# EAGLE library part PICAXE-18M2 (library PICAXEv2)
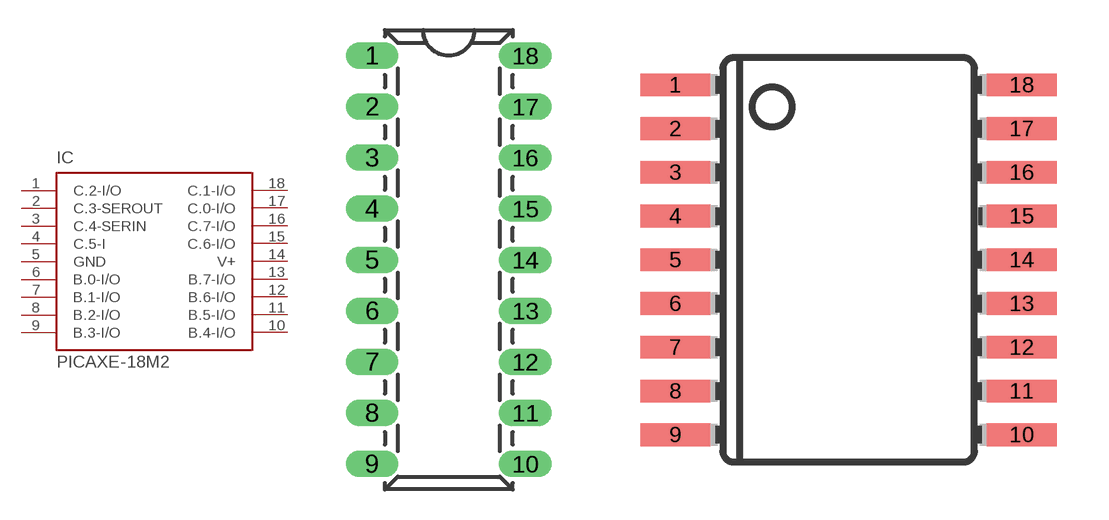
[diagram p2: symbol with the pads of DIL18; footprints DIL18, SOIC18W]

Designator prefix IC

## PICAXE-18M2-DIL  [DIL18]
1  C.2-I/O
2  C.3-SEROUT  out
3  C.4-SERIN  in
4  C.5-I  in
5  GND  pwr
6  B.0-I/O
7  B.1-I/O
8  B.2-I/O
9  B.3-I/O
10  B.4-I/O
11  B.5-I/O
12  B.6-I/O
13  B.7-I/O
14  V+  pwr
15  C.6-I/O
16  C.7-I/O
17  C.0-I/O
18  C.1-I/O

## PICAXE-18M2-SMD  [SOIC18W]
Pads as for DIL18

## Footprint DIL18 (pad centres in mm)
drill 0.8 pad 1.27 long: 1 -3.81,10.16; 2 -3.81,7.62; 3 -3.81,5.08; 4 -3.81,2.54; 5 -3.81,0; 6 -3.81,-2.54; 7 -3.81,-5.08; 8 -3.81,-7.62; 9 -3.81,-10.16; 10 3.81,-10.16; 11 3.81,-7.62; 12 3.81,-5.08; 13 3.81,-2.54; 14 3.81,0; 15 3.81,2.54; 16 3.81,5.08; 17 3.81,7.62; 18 3.81,10.16

## Footprint SOIC18W (pad centres in mm)
smd 2.032 x 0.66: 1 -5.029,5.08; 2 -5.029,3.81; 3 -5.029,2.54; 4 -5.029,1.27; 5 -5.029,0; 6 -5.029,-1.27; 7 -5.029,-2.54; 8 -5.029,-3.81; 9 -5.029,-5.08; 10 5.029,-5.08; 11 5.029,-3.81; 12 5.029,-2.54; 13 5.029,-1.27; 14 5.029,0; 15 5.029,1.27; 16 5.029,2.54; 17 5.029,3.81; 18 5.029,5.08